# Altium footprint library GPS1.PcbLib: 15 footprints
Each footprint in its own frame and in the unit in brackets; x right, y up, seen from the top. Pads: shape width x height; smd on the part's side, far side on the other; paste and mask are expansions set on the pad; w line width, h text height; cw(c..) or ccw(c..) is an arc to the next point about the centre after c.
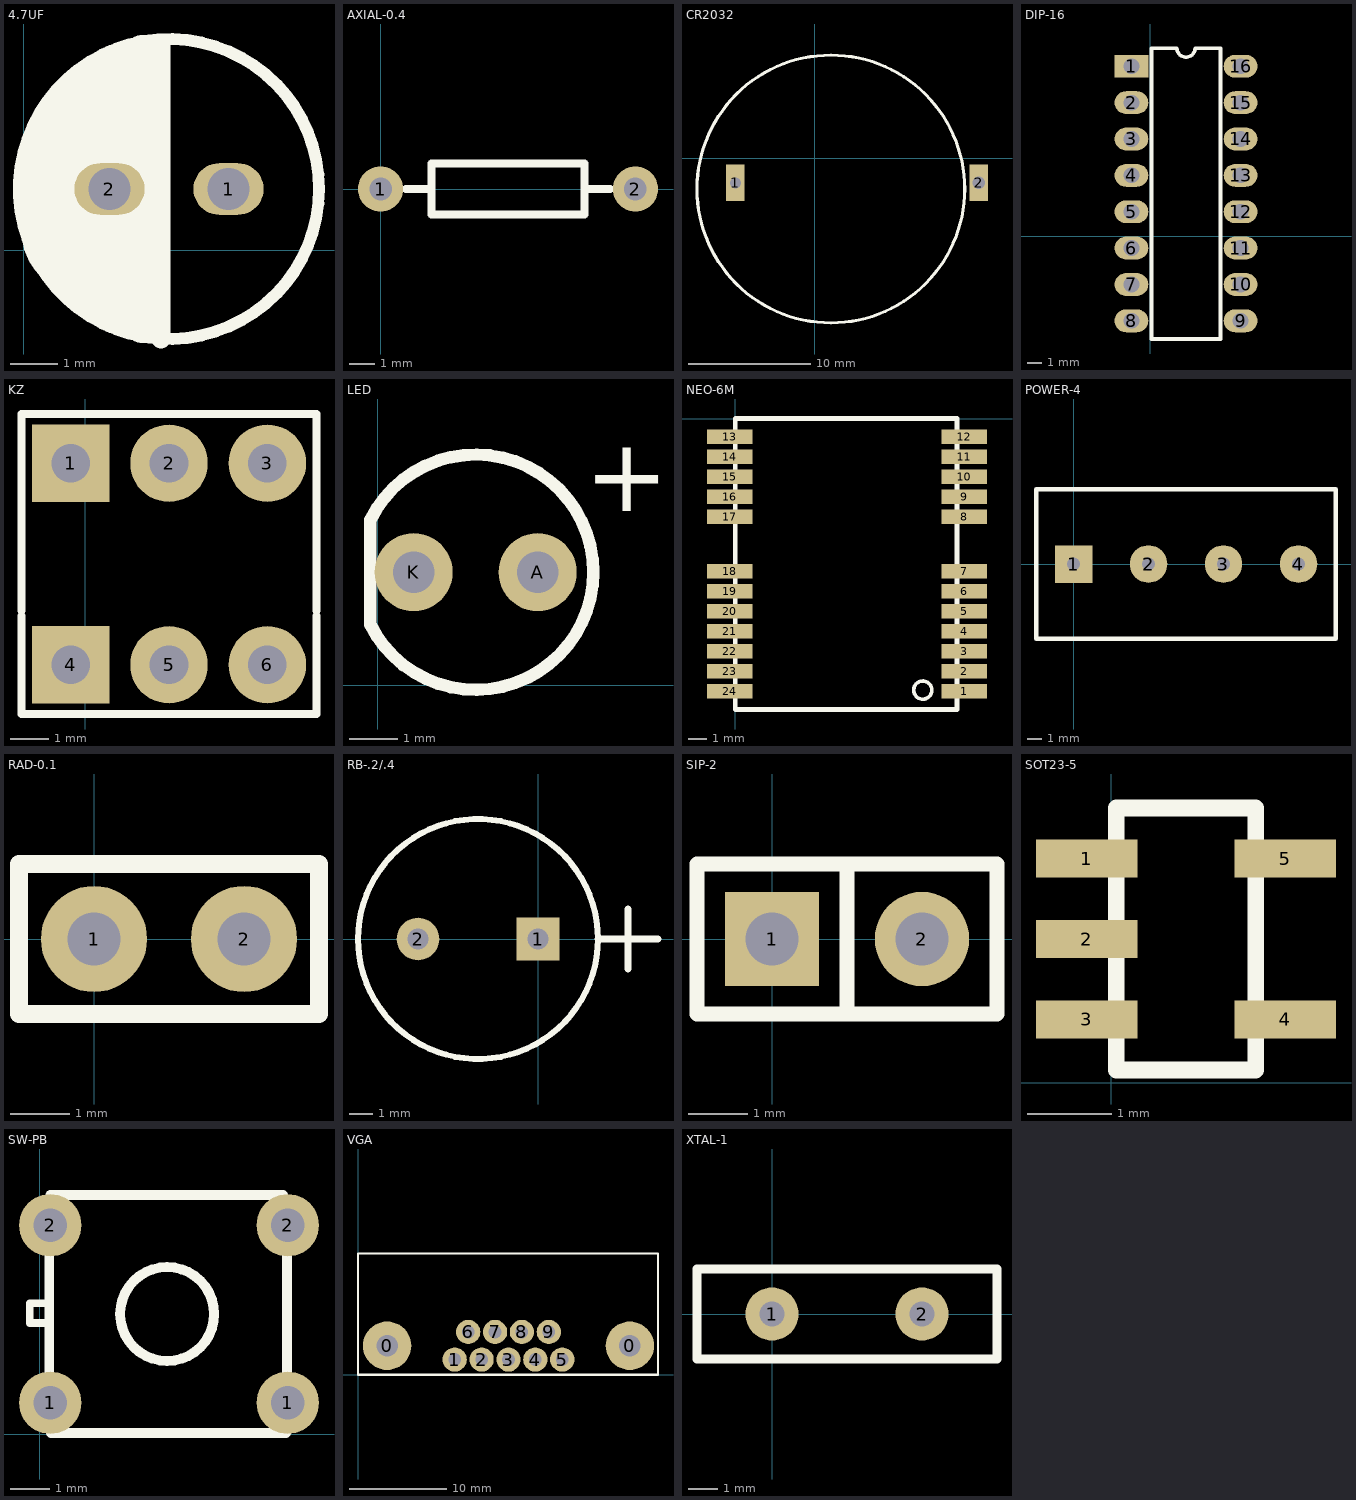
[diagram p0: the footprints below, top view; thin cyan lines are the x and y axes]

## 4.7UF [mm]
pads (2):
  oval 1.5x1.1 hole 0.9: 1(4.37,1.309) 2(1.83,1.309)
Top Overlay:
  circle w0.254: c3.1,1.309 r3.2
  lines w0.4: 2.93,-1.891 2.93,4.409
  lines w0.762: 0.63,-0.291 cw(c1.354,0.433) 0.33,0.433 0.33,1.861 cw(c2.137,1.861) 0.859,3.138 ccw(c0.689,3.309) 0.93,3.309 0.93,-0.691 ; 1.43,-1.091 1.43,3.609 ; 1.93,-1.391 1.93,4.009 ; 2.53,-1.591 2.53,4.209

## AXIAL-0.4 [mm]
pads (2):
  round 1.8 hole 0.9: 1(0,0) 2(10.16,0)
Top Overlay:
  lines w0.305: 1.016,0 2.032,0 ; 8.128,0 9.144,0 ; 2.032,-1.016 8.128,-1.016 8.128,1.016 2.032,1.016 2.032,-1.016

## CR2032 [mm]
pads (2):
  rect 1.5x3 hole 0.9: 1(-6.509,-2.032)
  rect 1.5x3 hole 1: 2(13.491,-2.032)
Top Overlay:
  circle w0.254: c1.342,-2.54 r11

## DIP-16 [mm]
pads (16):
  rect 2.35x1.6 hole 1.1: 1(-1.295,11.887)
  oval 2.35x1.6 hole 1.1: 2(-1.295,9.347) 3(-1.295,6.807) 4(-1.295,4.267) 5(-1.295,1.727) 6(-1.295,-0.813) 7(-1.295,-3.353) 8(-1.295,-5.893) 9(6.325,-5.893) 10(6.325,-3.353) 11(6.325,-0.813) 12(6.325,1.727) 13(6.325,4.267) 14(6.325,6.807) 15(6.325,9.347) 16(6.325,11.887)
Top Overlay:
  lines w0.254: 0.102,-7.163 4.928,-7.163 4.928,13.157 3.15,13.157 cw(c2.515,13.157) 1.88,13.157 0.102,13.157 0.102,-7.163

## KZ [mm]
pads (6):
  rect 2x2 hole 1: 1(-0.381,-10.414) 4(-0.381,-15.621)
  round 2 hole 1: 2(2.159,-10.414) 3(4.699,-10.414) 5(2.159,-15.621) 6(4.699,-15.621)
Top Overlay:
  lines w0.2: -1.651,-14.351 -1.651,-16.891 5.969,-16.891 5.969,-14.351 ; -1.651,-14.224 -1.651,-11.684 -1.651,-9.144 5.969,-9.144 5.969,-11.684 5.969,-14.224

## LED [mm]
pads (2):
  round 1.6 hole 0.85: A(3.277,2.321) K(0.737,2.321)
Top Overlay:
  lines w0.254: -0.149,1.243 ccw(c2.007,2.321) -0.149,3.399 -0.149,1.243
  text "+" at 4.242,3.565 h1.5

## NEO-6M [mm]
pads (24):
  rect 2.5x0.8 smd: 1(12.6,-15) 2(12.6,-13.9) 3(12.6,-12.8) 4(12.6,-11.7) 5(12.6,-10.6) 6(12.6,-9.5) 7(12.6,-8.4) 8(12.6,-5.4) 9(12.6,-4.3) 10(12.6,-3.2) 11(12.6,-2.1) 12(12.6,-1) 13(-0.3,-1) 14(-0.3,-2.1) 15(-0.3,-3.2) 16(-0.3,-4.3) 17(-0.3,-5.4) 18(-0.3,-8.4) 19(-0.3,-9.5) 20(-0.3,-10.6) 21(-0.3,-11.7) 22(-0.3,-12.8) 23(-0.3,-13.9) 24(-0.3,-15)
Top Overlay:
  circle w0.2: c10.317,-14.935 r0.5
  lines w0.254: 0,-16 12.2,-16 12.2,0 0,0 0,-16

## POWER-4 [mm]
pads (4):
  rect 2.54x2.54 hole 0.9: 1(0,0)
  round 2.54 hole 0.9: 2(5.08,0) 3(10.16,0) 4(15.24,0)
Top Overlay:
  lines w0.305: -2.54,-5.08 -2.54,5.08 17.78,5.08 17.78,-5.08 -2.54,-5.08

## RAD-0.1 [mm]
pads (2):
  round 1.8 hole 0.9: 1(0,0) 2(2.54,0)
Top Overlay:
  lines w0.305: -1.27,-1.27 3.81,-1.27 3.81,1.27 -1.27,1.27 -1.27,-1.27

## RB-.2/.4 [mm]
pads (2):
  rect 1.8x1.8 hole 0.9: 1(0,0)
  round 1.8 hole 0.9: 2(-5.08,0)
Top Overlay:
  circle w0.254: c-2.54,0 r5.08
  lines w0.305: 2.54,0 5.08,0 ; 3.81,-1.27 3.81,1.27

## SIP-2 [mm]
pads (2):
  rect 1.6x1.6 hole 0.9: 1(0,0)
  round 1.6 hole 0.9: 2(2.54,0)
Top Overlay:
  lines w0.254: 1.27,-1.27 1.27,1.27 ; -1.27,-1.27 -1.27,1.27 3.81,1.27 3.81,-1.27 -1.27,-1.27

## SOT23-5 [mm]
pads (5):
  rect 1.2x0.45 smd: 1(-0.29,2.651) 2(-0.29,1.701) 3(-0.29,0.751) 4(2.06,0.751) 5(2.06,2.651)
Top Overlay:
  lines w0.2: 0.06,0.151 1.71,0.151 1.71,3.251 0.06,3.251 0.06,0.151

## SW-PB [mm]
pads (4):
  round 1.6 hole 0.85: 1(0.269,0.814) 1(6.359,0.814) 2(0.269,5.364) 2(6.359,5.364)
Top Overlay:
  circle w0.254: c3.267,3.089 r1.204
  lines w0.2: 0.244,2.855 -0.254,2.855 -0.254,3.363 0.244,3.363
  lines w0.254: 0.244,0.879 0.244,4.943 ; 0.269,6.137 6.238,6.137 ; 0.295,0.041 6.315,0.041 ; 6.34,0.676 6.34,5.121

## VGA [mm]
pads (11):
  round 5 hole 2.2: 0(3,2.98) 0(28,2.98)
  round 2.5 hole 1.3: 1(9.96,1.56) 2(12.73,1.56) 3(15.5,1.56) 4(18.27,1.56) 5(21.04,1.56) 6(11.345,4.4) 7(14.115,4.4) 8(16.885,4.4) 9(19.655,4.4)
Top Overlay:
  lines w0.2: 0,0 0,12.5 30.9,12.5 30.9,0
  lines w0.254: 0,0 30.9,0

## XTAL-1 [mm]
pads (2):
  round 1.8 hole 0.85: 1(0,0) 2(5.08,0)
Top Overlay:
  lines w0.305: -2.54,-1.524 7.62,-1.524 7.62,1.524 -2.54,1.524 -2.54,-1.524